# Altium schematic symbol library Schlib.SchLib: 36 symbols
Pins are listed as number, name and electrical type; pins without a type are passive.

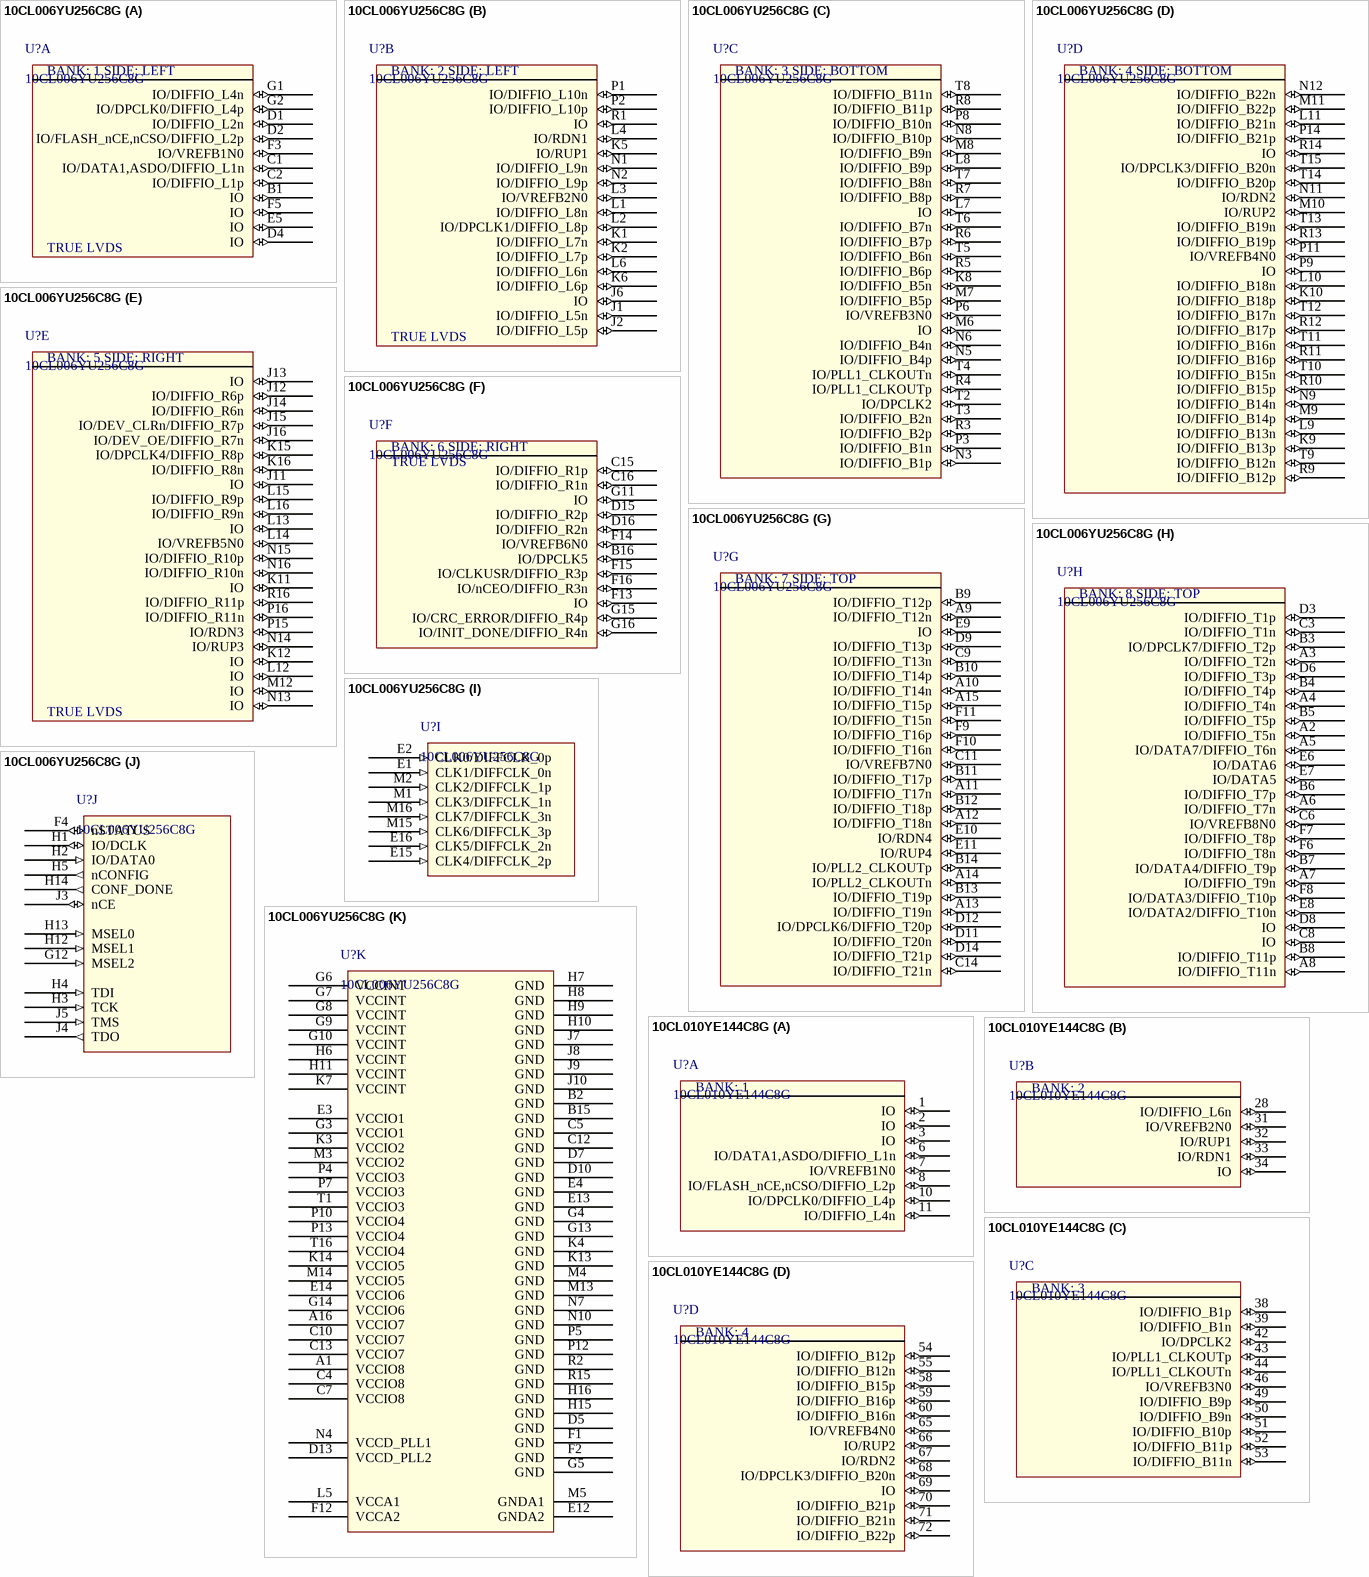
[diagram p0: symbols 10CL006YU256C8G to 10CL010YE144C8G]

## 10CL006YU256C8G
designator U?
Intel® Cyclone®10 10CL006 Device
footprint BGA256C80P16X16_1400X1400X135 (BGA, 256-Leads, Body 14,00x14,00mmx1,35mm, Pitch 0,80mm)
part A pins: B1 IO (io), C1 IO/DATA1,ASDO/DIFFIO_L1n (io), C2 IO/DIFFIO_L1p (io), D1 IO/DIFFIO_L2n (io), D2 IO/FLASH_nCE,nCSO/DIFFIO_L2p (io), D4 IO (io), E5 IO (io), F3 IO/VREFB1N0 (io), F5 IO (io), G1 IO/DIFFIO_L4n (io), G2 IO/DPCLK0/DIFFIO_L4p (io)
part B pins: J1 IO/DIFFIO_L5n (io), J2 IO/DIFFIO_L5p (io), J6 IO (io), K1 IO/DIFFIO_L7n (io), K2 IO/DIFFIO_L7p (io), K5 IO/RUP1 (io), K6 IO/DIFFIO_L6p (io), L1 IO/DIFFIO_L8n (io), L2 IO/DPCLK1/DIFFIO_L8p (io), L3 IO/VREFB2N0 (io), L4 IO/RDN1 (io), L6 IO/DIFFIO_L6n (io), N1 IO/DIFFIO_L9n (io), N2 IO/DIFFIO_L9p (io), P1 IO/DIFFIO_L10n (io), P2 IO/DIFFIO_L10p (io), R1 IO (io)
part C pins: K8 IO/DIFFIO_B5n (io), L7 IO (io), L8 IO/DIFFIO_B9p (io), M6 IO (io), M7 IO/DIFFIO_B5p (io), M8 IO/DIFFIO_B9n (io), N3 IO/DIFFIO_B1p (io), N5 IO/DIFFIO_B4p (io), N6 IO/DIFFIO_B4n (io), N8 IO/DIFFIO_B10p (io), P3 IO/DIFFIO_B1n (io), P6 IO/VREFB3N0 (io), P8 IO/DIFFIO_B10n (io), R3 IO/DIFFIO_B2p (io), R4 IO/PLL1_CLKOUTp (io), R5 IO/DIFFIO_B6p (io), R6 IO/DIFFIO_B7p (io), R7 IO/DIFFIO_B8p (io), R8 IO/DIFFIO_B11p (io), T2 IO/DPCLK2 (io), T3 IO/DIFFIO_B2n (io), T4 IO/PLL1_CLKOUTn (io), T5 IO/DIFFIO_B6n (io), T6 IO/DIFFIO_B7n (io), T7 IO/DIFFIO_B8n (io), T8 IO/DIFFIO_B11n (io)
part D pins: K9 IO/DIFFIO_B13p (io), K10 IO/DIFFIO_B18p (io), L9 IO/DIFFIO_B13n (io), L10 IO/DIFFIO_B18n (io), L11 IO/DIFFIO_B21n (io) "eeee", M9 IO/DIFFIO_B14p (io), M10 IO/RUP2 (io), M11 IO/DIFFIO_B22p (io), N9 IO/DIFFIO_B14n (io), N11 IO/RDN2 (io), N12 IO/DIFFIO_B22n (io), P9 IO (io), P11 IO/VREFB4N0 (io), P14 IO/DIFFIO_B21p (io) "wewe", R9 IO/DIFFIO_B12p (io), R10 IO/DIFFIO_B15p (io), R11 IO/DIFFIO_B16p (io), R12 IO/DIFFIO_B17p (io), R13 IO/DIFFIO_B19p (io), R14 IO (io), T9 IO/DIFFIO_B12n (io), T10 IO/DIFFIO_B15n (io), T11 IO/DIFFIO_B16n (io), T12 IO/DIFFIO_B17n (io), T13 IO/DIFFIO_B19n (io), T14 IO/DIFFIO_B20p (io), T15 IO/DPCLK3/DIFFIO_B20n (io)
part E pins: J11 IO (io), J12 IO/DIFFIO_R6p (io), J13 IO (io), J14 IO/DIFFIO_R6n (io), J15 IO/DEV_CLRn/DIFFIO_R7p (io), J16 IO/DEV_OE/DIFFIO_R7n (io), K11 IO (io), K12 IO (io), K15 IO/DPCLK4/DIFFIO_R8p (io), K16 IO/DIFFIO_R8n (io), L12 IO (io), L13 IO (io), L14 IO/VREFB5N0 (io), L15 IO/DIFFIO_R9p (io), L16 IO/DIFFIO_R9n (io), M12 IO (io), N13 IO (io), N14 IO/RUP3 (io), N15 IO/DIFFIO_R10p (io), N16 IO/DIFFIO_R10n (io), P15 IO/RDN3 (io), P16 IO/DIFFIO_R11n (io), R16 IO/DIFFIO_R11p (io)
part F pins: B16 IO/DPCLK5 (io), C15 IO/DIFFIO_R1p (io), C16 IO/DIFFIO_R1n (io), D15 IO/DIFFIO_R2p (io), D16 IO/DIFFIO_R2n (io), F13 IO (io), F14 IO/VREFB6N0 (io), F15 IO/CLKUSR/DIFFIO_R3p (io), F16 IO/nCEO/DIFFIO_R3n (io), G11 IO (io), G15 IO/CRC_ERROR/DIFFIO_R4p (io), G16 IO/INIT_DONE/DIFFIO_R4n (io)
part G pins: A9 IO/DIFFIO_T12n (io), A10 IO/DIFFIO_T14n (io), A11 IO/DIFFIO_T17n (io), A12 IO/DIFFIO_T18n (io), A13 IO/DIFFIO_T19n (io), A14 IO/PLL2_CLKOUTn (io), A15 IO/DIFFIO_T15p (io), B9 IO/DIFFIO_T12p (io), B10 IO/DIFFIO_T14p (io), B11 IO/DIFFIO_T17p (io), B12 IO/DIFFIO_T18p (io), B13 IO/DIFFIO_T19p (io), B14 IO/PLL2_CLKOUTp (io), C9 IO/DIFFIO_T13n (io), C11 IO/VREFB7N0 (io), C14 IO/DIFFIO_T21n (io), D9 IO/DIFFIO_T13p (io), D11 IO/DIFFIO_T20n (io), D12 IO/DPCLK6/DIFFIO_T20p (io), D14 IO/DIFFIO_T21p (io), E9 IO (io), E10 IO/RDN4 (io), E11 IO/RUP4 (io), F9 IO/DIFFIO_T16p (io), F10 IO/DIFFIO_T16n (io), F11 IO/DIFFIO_T15n (io)
part H pins: A2 IO/DIFFIO_T5n (io), A3 IO/DIFFIO_T2n (io), A4 IO/DIFFIO_T4n (io), A5 IO/DATA7/DIFFIO_T6n (io), A6 IO/DIFFIO_T7n (io), A7 IO/DIFFIO_T9n (io), A8 IO/DIFFIO_T11n (io), B3 IO/DPCLK7/DIFFIO_T2p (io), B4 IO/DIFFIO_T4p (io), B5 IO/DIFFIO_T5p (io), B6 IO/DIFFIO_T7p (io), B7 IO/DATA4/DIFFIO_T9p (io), B8 IO/DIFFIO_T11p (io), C3 IO/DIFFIO_T1n (io), C6 IO/VREFB8N0 (io), C8 IO (io), D3 IO/DIFFIO_T1p (io), D6 IO/DIFFIO_T3p (io), D8 IO (io), E6 IO/DATA6 (io), E7 IO/DATA5 (io), E8 IO/DATA2/DIFFIO_T10n (io), F6 IO/DIFFIO_T8n (io), F7 IO/DIFFIO_T8p (io), F8 IO/DATA3/DIFFIO_T10p (io)
part I pins: E1 CLK1/DIFFCLK_0n (in), E2 CLK0/DIFFCLK_0p (in), E15 CLK4/DIFFCLK_2p (in), E16 CLK5/DIFFCLK_2n (in), M1 CLK3/DIFFCLK_1n (in), M2 CLK2/DIFFCLK_1p (in), M15 CLK6/DIFFCLK_3p (in), M16 CLK7/DIFFCLK_3n (in)
part J pins: F4 nSTATUS (io), G12 MSEL2 (in), H1 IO/DCLK (io), H2 IO/DATA0 (in), H3 TCK (in), H4 TDI (in), H5 nCONFIG (out), H12 MSEL1 (in), H13 MSEL0 (in), H14 CONF_DONE (out), J3 nCE (io), J4 TDO (out), J5 TMS (in)
part K pins: A1 VCCIO8 (power), A16 VCCIO7 (power), B2 GND (power), B15 GND (power), C4 VCCIO8 (power), C5 GND (power), C7 VCCIO8 (power), C10 VCCIO7 (power), C12 GND (power), C13 VCCIO7 (power), D5 GND (power), D7 GND (power), D10 GND (power), D13 VCCD_PLL2 (power), E3 VCCIO1 (power), E4 GND (power), E12 GNDA2 (power), E13 GND (power), E14 VCCIO6 (power), F1 GND (power), F2 GND (power), F12 VCCA2 (power), G3 VCCIO1 (power), G4 GND (power), G5 GND (power), G6 VCCINT (power), G7 VCCINT (power), G8 VCCINT (power), G9 VCCINT (power), G10 VCCINT (power), G13 GND (power), G14 VCCIO6 (power), H6 VCCINT (power), H7 GND (power), H8 GND (power), H9 GND (power), H10 GND (power), H11 VCCINT (power), H15 GND (power), H16 GND (power), J7 GND (power), J8 GND (power), J9 GND (power), J10 GND (power), K3 VCCIO2 (power), K4 GND (power), K7 VCCINT (power), K13 GND (power), K14 VCCIO5 (power), L5 VCCA1 (power), M3 VCCIO2 (power), M4 GND (power), M5 GNDA1 (power), M13 GND (power), M14 VCCIO5 (power), N4 VCCD_PLL1 (power), N7 GND (power), N10 GND (power), P4 VCCIO3 (power), P5 GND (power), P7 VCCIO3 (power), P10 VCCIO4 (power), P12 GND (power), P13 VCCIO4 (power), R2 GND (power), R15 GND (power), T1 VCCIO3 (power), T16 VCCIO4 (power)
part A text: BANK: 1 SIDE: LEFT; TRUE LVDS
part B text: BANK: 2 SIDE: LEFT; TRUE LVDS
part C text: BANK: 3 SIDE: BOTTOM
part D text: BANK: 4 SIDE: BOTTOM
part E text: BANK: 5 SIDE: RIGHT; TRUE LVDS
part F text: BANK: 6 SIDE: RIGHT; TRUE LVDS
part G text: BANK: 7 SIDE: TOP
part H text: BANK: 8 SIDE: TOP

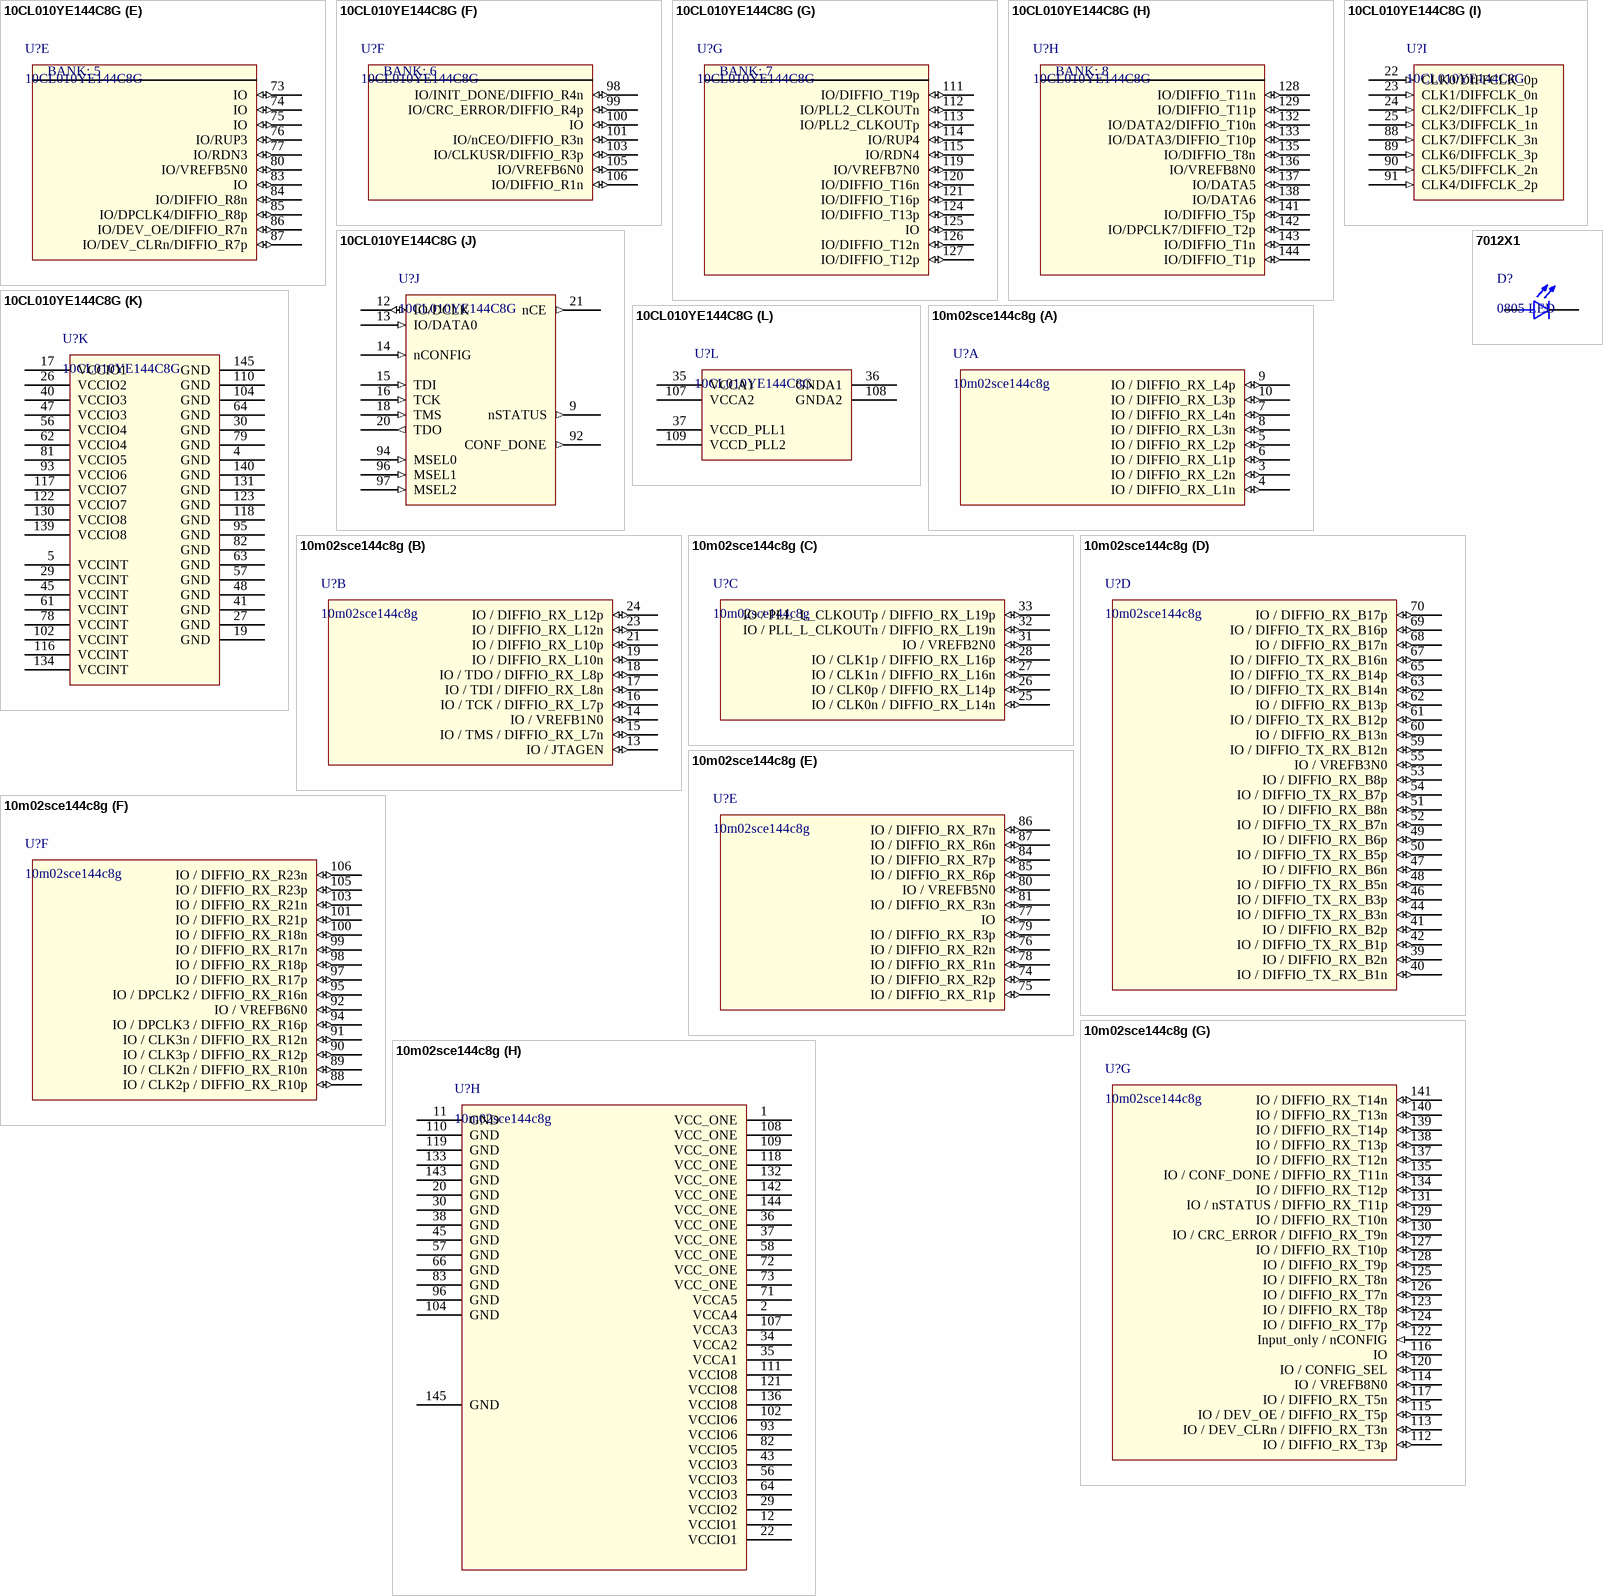
[diagram p1: symbols 10CL010YE144C8G to 7012X1]

## 10CL010YE144C8G
designator U?
Intel® Cyclone®10 10CL010 Device
footprint Altera TQFP 50P 22X22 145N (TSQFP, 144-Leads, Body 20,00x20,00mm, Pitch 0,50mm, Thermal Pad 4,00x4,00mm, IPC Medium Density)
part A pins: 1 IO (io), 2 IO (io), 3 IO (io), 6 IO/DATA1,ASDO/DIFFIO_L1n (io), 7 IO/VREFB1N0 (io), 8 IO/FLASH_nCE,nCSO/DIFFIO_L2p (io), 10 IO/DPCLK0/DIFFIO_L4p (io), 11 IO/DIFFIO_L4n (io)
part B pins: 28 IO/DIFFIO_L6n (io), 31 IO/VREFB2N0 (io), 32 IO/RUP1 (io), 33 IO/RDN1 (io), 34 IO (io)
part C pins: 38 IO/DIFFIO_B1p (io), 39 IO/DIFFIO_B1n (io), 42 IO/DPCLK2 (io), 43 IO/PLL1_CLKOUTp (io), 44 IO/PLL1_CLKOUTn (io), 46 IO/VREFB3N0 (io), 49 IO/DIFFIO_B9p (io), 50 IO/DIFFIO_B9n (io), 51 IO/DIFFIO_B10p (io), 52 IO/DIFFIO_B11p (io), 53 IO/DIFFIO_B11n (io)
part D pins: 54 IO/DIFFIO_B12p (io), 55 IO/DIFFIO_B12n (io), 58 IO/DIFFIO_B15p (io), 59 IO/DIFFIO_B16p (io), 60 IO/DIFFIO_B16n (io), 65 IO/VREFB4N0 (io), 66 IO/RUP2 (io), 67 IO/RDN2 (io), 68 IO/DPCLK3/DIFFIO_B20n (io), 69 IO (io), 70 IO/DIFFIO_B21p (io), 71 IO/DIFFIO_B21n (io), 72 IO/DIFFIO_B22p (io)
part E pins: 73 IO (io), 74 IO (io), 75 IO (io), 76 IO/RUP3 (io), 77 IO/RDN3 (io), 80 IO/VREFB5N0 (io), 83 IO (io), 84 IO/DIFFIO_R8n (io), 85 IO/DPCLK4/DIFFIO_R8p (io), 86 IO/DEV_OE/DIFFIO_R7n (io), 87 IO/DEV_CLRn/DIFFIO_R7p (io)
part F pins: 98 IO/INIT_DONE/DIFFIO_R4n (io), 99 IO/CRC_ERROR/DIFFIO_R4p (io), 100 IO (io), 101 IO/nCEO/DIFFIO_R3n (io), 103 IO/CLKUSR/DIFFIO_R3p (io), 105 IO/VREFB6N0 (io), 106 IO/DIFFIO_R1n (io)
part G pins: 111 IO/DIFFIO_T19p (io), 112 IO/PLL2_CLKOUTn (io), 113 IO/PLL2_CLKOUTp (io), 114 IO/RUP4 (io), 115 IO/RDN4 (io), 119 IO/VREFB7N0 (io), 120 IO/DIFFIO_T16n (io), 121 IO/DIFFIO_T16p (io), 124 IO/DIFFIO_T13p (io), 125 IO (io), 126 IO/DIFFIO_T12n (io), 127 IO/DIFFIO_T12p (io)
part H pins: 128 IO/DIFFIO_T11n (io), 129 IO/DIFFIO_T11p (io), 132 IO/DATA2/DIFFIO_T10n (io), 133 IO/DATA3/DIFFIO_T10p (io), 135 IO/DIFFIO_T8n (io), 136 IO/VREFB8N0 (io), 137 IO/DATA5 (io), 138 IO/DATA6 (io), 141 IO/DIFFIO_T5p (io), 142 IO/DPCLK7/DIFFIO_T2p (io), 143 IO/DIFFIO_T1n (io), 144 IO/DIFFIO_T1p (io)
part I pins: 22 CLK0/DIFFCLK_0p (in), 23 CLK1/DIFFCLK_0n (in), 24 CLK2/DIFFCLK_1p (in), 25 CLK3/DIFFCLK_1n (in), 88 CLK7/DIFFCLK_3n (in), 89 CLK6/DIFFCLK_3p (in), 90 CLK5/DIFFCLK_2n (in), 91 CLK4/DIFFCLK_2p (in)
part J pins: 9 nSTATUS (out), 12 IO/DCLK (io), 13 IO/DATA0 (in), 14 nCONFIG (in), 15 TDI (in), 16 TCK (in), 18 TMS (in), 20 TDO (out), 21 nCE (out), 92 CONF_DONE (out), 94 MSEL0 (in), 96 MSEL1 (in), 97 MSEL2 (in)
part K pins: 4 GND (power), 5 VCCINT (power), 17 VCCIO1 (power), 19 GND (power), 26 VCCIO2 (power), 27 GND (power), 29 VCCINT (power), 30 GND (power), 40 VCCIO3 (power), 41 GND (power), 45 VCCINT (power), 47 VCCIO3 (power), 48 GND (power), 56 VCCIO4 (power), 57 GND (power), 61 VCCINT (power), 62 VCCIO4 (power), 63 GND (power), 64 GND (power), 78 VCCINT (power), 79 GND (power), 81 VCCIO5 (power), 82 GND (power), 93 VCCIO6 (power), 95 GND (power), 102 VCCINT (power), 104 GND (power), 110 GND (power), 116 VCCINT (power), 117 VCCIO7 (power), 118 GND (power), 122 VCCIO7 (power), 123 GND (power), 130 VCCIO8 (power), 131 GND (power), 134 VCCINT (power), 139 VCCIO8 (power), 140 GND (power), 145 GND (power)
part L pins: 35 VCCA1 (power), 36 GNDA1 (power), 37 VCCD_PLL1 (power), 107 VCCA2 (power), 108 GNDA2 (power), 109 VCCD_PLL2 (power)
part A text: BANK: 1
part B text: BANK: 2
part C text: BANK: 3
part D text: BANK: 4
part E text: BANK: 5
part F text: BANK: 6
part G text: BANK: 7
part H text: BANK: 8

## 10m02sce144c8g
designator U?
FPGA MAX10
footprint Altera TQFP 50P 22X22 145N (TSQFP, 144-Leads, Body 20,00x20,00mm, Pitch 0,50mm, Thermal Pad 4,00x4,00mm, IPC Medium Density)
part A pins: 3 IO / DIFFIO_RX_L2n (io), 4 IO / DIFFIO_RX_L1n (io), 5 IO / DIFFIO_RX_L2p (io), 6 IO / DIFFIO_RX_L1p (io), 7 IO / DIFFIO_RX_L4n (io), 8 IO / DIFFIO_RX_L3n (io), 9 IO / DIFFIO_RX_L4p (io), 10 IO / DIFFIO_RX_L3p (io)
part B pins: 13 IO / JTAGEN (io), 14 IO / VREFB1N0 (io), 15 IO / TMS / DIFFIO_RX_L7n (io), 16 IO / TCK / DIFFIO_RX_L7p (io), 17 IO / TDI / DIFFIO_RX_L8n (io), 18 IO / TDO / DIFFIO_RX_L8p (io), 19 IO / DIFFIO_RX_L10n (io), 21 IO / DIFFIO_RX_L10p (io), 23 IO / DIFFIO_RX_L12n (io), 24 IO / DIFFIO_RX_L12p (io)
part C pins: 25 IO / CLK0n / DIFFIO_RX_L14n (io), 26 IO / CLK0p / DIFFIO_RX_L14p (io), 27 IO / CLK1n / DIFFIO_RX_L16n (io), 28 IO / CLK1p / DIFFIO_RX_L16p (io), 31 IO / VREFB2N0 (io), 32 IO / PLL_L_CLKOUTn / DIFFIO_RX_L19n (io), 33 IO / PLL_L_CLKOUTp / DIFFIO_RX_L19p (io)
part D pins: 39 IO / DIFFIO_RX_B2n (io), 40 IO / DIFFIO_TX_RX_B1n (io), 41 IO / DIFFIO_RX_B2p (io), 42 IO / DIFFIO_TX_RX_B1p (io), 44 IO / DIFFIO_TX_RX_B3n (io), 46 IO / DIFFIO_TX_RX_B3p (io), 47 IO / DIFFIO_RX_B6n (io), 48 IO / DIFFIO_TX_RX_B5n (io), 49 IO / DIFFIO_RX_B6p (io), 50 IO / DIFFIO_TX_RX_B5p (io), 51 IO / DIFFIO_RX_B8n (io), 52 IO / DIFFIO_TX_RX_B7n (io), 53 IO / DIFFIO_RX_B8p (io), 54 IO / DIFFIO_TX_RX_B7p (io), 55 IO / VREFB3N0 (io), 59 IO / DIFFIO_TX_RX_B12n (io), 60 IO / DIFFIO_RX_B13n (io), 61 IO / DIFFIO_TX_RX_B12p (io), 62 IO / DIFFIO_RX_B13p (io), 63 IO / DIFFIO_TX_RX_B14n (io), 65 IO / DIFFIO_TX_RX_B14p (io), 67 IO / DIFFIO_TX_RX_B16n (io), 68 IO / DIFFIO_RX_B17n (io), 69 IO / DIFFIO_TX_RX_B16p (io), 70 IO / DIFFIO_RX_B17p (io)
part E pins: 74 IO / DIFFIO_RX_R2p (io), 75 IO / DIFFIO_RX_R1p (io), 76 IO / DIFFIO_RX_R2n (io), 77 IO (io), 78 IO / DIFFIO_RX_R1n (io), 79 IO / DIFFIO_RX_R3p (io), 80 IO / VREFB5N0 (io), 81 IO / DIFFIO_RX_R3n (io), 84 IO / DIFFIO_RX_R7p (io), 85 IO / DIFFIO_RX_R6p (io), 86 IO / DIFFIO_RX_R7n (io), 87 IO / DIFFIO_RX_R6n (io)
part F pins: 88 IO / CLK2p / DIFFIO_RX_R10p (io), 89 IO / CLK2n / DIFFIO_RX_R10n (io), 90 IO / CLK3p / DIFFIO_RX_R12p (io), 91 IO / CLK3n / DIFFIO_RX_R12n (io), 92 IO / VREFB6N0 (io), 94 IO / DPCLK3 / DIFFIO_RX_R16p (io), 95 IO / DPCLK2 / DIFFIO_RX_R16n (io), 97 IO / DIFFIO_RX_R17p (io), 98 IO / DIFFIO_RX_R18p (io), 99 IO / DIFFIO_RX_R17n (io), 100 IO / DIFFIO_RX_R18n (io), 101 IO / DIFFIO_RX_R21p (io), 103 IO / DIFFIO_RX_R21n (io), 105 IO / DIFFIO_RX_R23p (io), 106 IO / DIFFIO_RX_R23n (io)
part G pins: 112 IO / DIFFIO_RX_T3p (io), 113 IO / DEV_CLRn / DIFFIO_RX_T3n (io), 114 IO / VREFB8N0 (io), 115 IO / DEV_OE / DIFFIO_RX_T5p (io), 116 IO (io), 117 IO / DIFFIO_RX_T5n (io), 120 IO / CONFIG_SEL (io), 122 Input_only / nCONFIG (in), 123 IO / DIFFIO_RX_T8p (io), 124 IO / DIFFIO_RX_T7p (io), 125 IO / DIFFIO_RX_T8n (io), 126 IO / DIFFIO_RX_T7n (io), 127 IO / DIFFIO_RX_T10p (io), 128 IO / DIFFIO_RX_T9p (io), 129 IO / DIFFIO_RX_T10n (io), 130 IO / CRC_ERROR / DIFFIO_RX_T9n (io), 131 IO / nSTATUS / DIFFIO_RX_T11p (io), 134 IO / DIFFIO_RX_T12p (io), 135 IO / CONF_DONE / DIFFIO_RX_T11n (io), 137 IO / DIFFIO_RX_T12n (io), 138 IO / DIFFIO_RX_T13p (io), 139 IO / DIFFIO_RX_T14p (io), 140 IO / DIFFIO_RX_T13n (io), 141 IO / DIFFIO_RX_T14n (io)
part H pins: 1 VCC_ONE (power), 2 VCCA4 (power), 11 GND (power), 12 VCCIO1 (power), 20 GND (power), 22 VCCIO1 (power), 29 VCCIO2 (power), 30 GND (power), 34 VCCA2 (power), 35 VCCA1 (power), 36 VCC_ONE (power), 37 VCC_ONE (power), 38 GND (power), 43 VCCIO3 (power), 45 GND (power), 56 VCCIO3 (power), 57 GND (power), 58 VCC_ONE (power), 64 VCCIO3 (power), 66 GND (power), 71 VCCA5 (power), 72 VCC_ONE (power), 73 VCC_ONE (power), 82 VCCIO5 (power), 83 GND (power), 93 VCCIO6 (power), 96 GND (power), 102 VCCIO6 (power), 104 GND (power), 107 VCCA3 (power), 108 VCC_ONE (power), 109 VCC_ONE (power), 110 GND (power), 111 VCCIO8 (power), 118 VCC_ONE (power), 119 GND (power), 121 VCCIO8 (power), 132 VCC_ONE (power), 133 GND (power), 136 VCCIO8 (power), 142 VCC_ONE (power), 143 GND (power), 144 VCC_ONE (power), 145 GND (power)

## 7012X1
designator D?, comment 0805 LED
Red LED Indication - Discrete 1.7V 0805 (2012 Metric); MP: 7012X1; Package: None; Price: None; Value: *; Availability: Unavailable
footprint LED_7012X1
pins: A, C

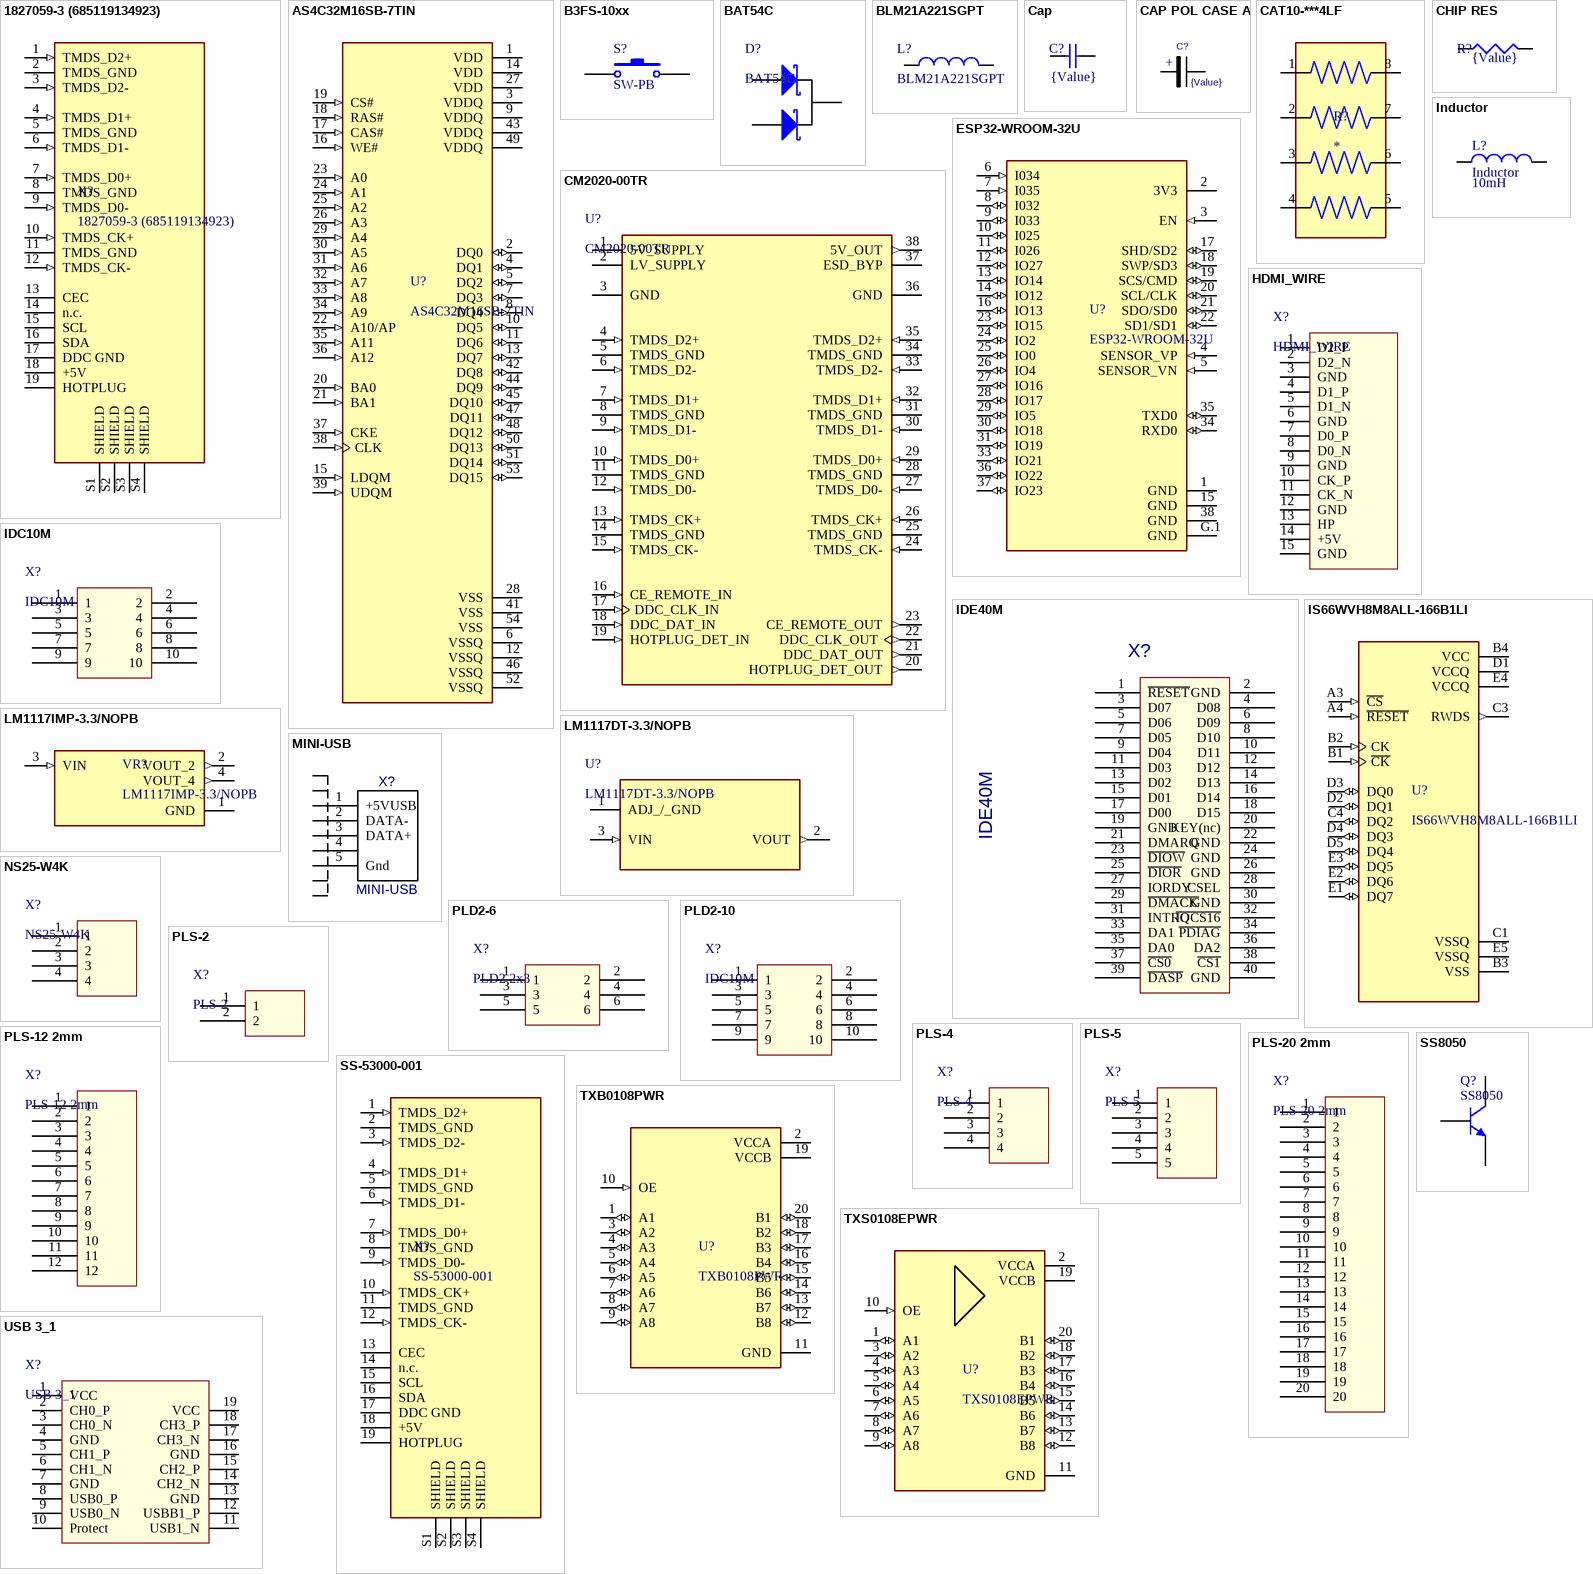
[diagram p2: symbols 1827059-3 (685119134923) to USB 3_1]

## 1827059-3 (685119134923)
designator X?
HDMI Connector | Right Angle | Without Flange | -20C to 85C / 1827059-3 / KLS1-285-1-N-1-R / 1747981-1 / 685119134923; MP: SS-53000-001; MF: Stewart Connector; Price: None; SnapEDA_Link: https://www.snapeda.com/parts/SS-53000-001/Stewart%20Connector/view-part/4628816/?ref=snap; Availability: Unavailable; Value: *; Package: None
footprint 1827059-3 (685119134923)
pins: 1 TMDS_D2+ (in), 2 TMDS_GND (power), 3 TMDS_D2- (in), 4 TMDS_D1+ (in), 5 TMDS_GND (power), 6 TMDS_D1- (in), 7 TMDS_D0+ (in), 8 TMDS_GND (power), 9 TMDS_D0- (in), 10 TMDS_CK+ (in), 11 TMDS_GND (power), 12 TMDS_CK- (in), 13 CEC, 14 n.c., 15 SCL, 16 SDA, 17 DDC GND, 18 +5V, 19 HOTPLUG, S1 SHIELD, S2 SHIELD, S3 SHIELD, S4 SHIELD

## AS4C32M16SB-7TIN
designator U?
SDRAM Memory IC 512Mb (32M x 16) Parallel 166MHz 5ns 54-TSOP II; Package: None; Price: None; Value: *; MP: AS4C32M16SB-7TIN; Availability: Unavailable
footprint SOP80P1176X120-54N
pins: 1 VDD (power), 2 DQ0 (io), 3 VDDQ (power), 4 DQ1 (io), 5 DQ2 (io), 6 VSSQ (power), 7 DQ3 (io), 8 DQ4 (io), 9 VDDQ (power), 10 DQ5 (io), 11 DQ6 (io), 12 VSSQ (power), 13 DQ7 (io), 14 VDD (power), 15 LDQM (in), 16 WE# (in), 17 CAS# (in), 18 RAS# (in), 19 CS# (in), 20 BA0 (in), 21 BA1 (in), 22 A10/AP (in), 23 A0 (in), 24 A1 (in), 25 A2 (in), 26 A3 (in), 27 VDD (power), 28 VSS (power), 29 A4 (in), 30 A5 (in), 31 A6 (in), 32 A7 (in), 33 A8 (in), 34 A9 (in), 35 A11 (in), 36 A12 (in), 37 CKE (in), 38 CLK (in), 39 UDQM (in), 41 VSS (power), 42 DQ8 (io), 43 VDDQ (power), 44 DQ9 (io), 45 DQ10 (io), 46 VSSQ (power), 47 DQ11 (io), 48 DQ12 (io), 49 VDDQ (power), 50 DQ13 (io), 51 DQ14 (io), 52 VSSQ (power), 53 DQ15 (io), 54 VSS (power)

## B3FS-10xx
designator S?, comment SW-PB
Switch; Published: 24-Mar-1999; LatestRevisionDate: 17-Jul-2002; LatestRevisionNote: Re-released for DXP Platform.; PackageReference: SPST-2; Publisher: Altium Limited; PackageDescription: Switch; 2 Leads
footprint B3FS-1000P (Tactile Switch (SMT))
pins: 1, 2

## BAT54C
designator D?
footprint SOT-23 (SOT-23; 3 Leads; Body 3.1 x 2.5 mm, inc. leads (LxW max))
pins: 1 A, 2 A, 3 C

## BLM21A221SGPT
designator L?
CHIP FERRITE BEADS 220R AT 100Mhz; Value: 220R at 100Mhz
footprint 0805 CHIP RES
pins: 1, 2

## Cap
designator C?, comment {Value}
Capacitor; Value: {Value}
footprint 0603 Chip Semi CAP
footprint 0402 Chip CAP
footprint 0805 chip cap
pins: 1, 2

## CAP POL CASE A
designator C?, comment {Value}
Value: {Value}
footprint CAP CASE-A (Capacitor, SM Tantalum; Body 3.2 x 1.6 mm (LxW typ))
pins: 1, 2
text: +

## CAT10-***4LF
designator R?
*** Ohm Â±5% 62.5mW Power Per Element Isolated Resistor Network/Array Â±250ppm/Â°C 0804, Concave, Long Side Terminals; MP: CAT10-101J4LF; Package: None; Price: None; Value: *; Availability: Unavailable
footprint RESCAV50P200X100X55-8N
pins: 1, 2, 3, 4, 5, 6, 7, 8

## CHIP RES
designator R?, comment {Value}
Resistor; Value: {Value}
footprint 0805 CHIP RES
pins: 1, 2

## CM2020-00TR
designator U?
HDMI Port Protection 38-TSSOP; MF: ON Semiconductor; SnapEDA_Link: https://www.snapeda.com/parts/CM2020-00TR/ON%20Semiconductor/view-part/237892/?ref=snap; Value: *; Availability: Unavailable; Price: None; MP: CM2020-00TR; Package: TSSOP-38 ON Semiconductor
footprint TSSOP50P640X120-38N
pins: 1 5V_SUPPLY (power), 2 LV_SUPPLY (power), 3 GND (power), 4 TMDS_D2+ (in), 5 TMDS_GND (power), 6 TMDS_D2- (in), 7 TMDS_D1+ (in), 8 TMDS_GND (power), 9 TMDS_D1- (in), 10 TMDS_D0+ (in), 11 TMDS_GND (power), 12 TMDS_D0- (in), 13 TMDS_CK+ (in), 14 TMDS_GND (power), 15 TMDS_CK- (in), 16 CE_REMOTE_IN (in), 17 DDC_CLK_IN (in), 18 DDC_DAT_IN (in), 19 HOTPLUG_DET_IN (in), 20 HOTPLUG_DET_OUT (out), 21 DDC_DAT_OUT (out), 22 DDC_CLK_OUT (out), 23 CE_REMOTE_OUT (out), 24 TMDS_CK- (in), 25 TMDS_GND (power), 26 TMDS_CK+ (in), 27 TMDS_D0- (in), 28 TMDS_GND (power), 29 TMDS_D0+ (in), 30 TMDS_D1- (in), 31 TMDS_GND (power), 32 TMDS_D1+ (in), 33 TMDS_D2- (in), 34 TMDS_GND (power), 35 TMDS_D2+ (in), 36 GND (power), 37 ESD_BYP, 38 5V_OUT (out)

## ESP32-WROOM-32U
designator U?
Bluetooth, WiFi 802.11b/g/n, Bluetooth v4.2 +EDR, Class 1, 2 and 3 Transceiver Module 2.4GHz ~ 2.5GHz Antenna Not Included, U.FL Surface Mount; MF: Espressif Systems; Value: *; SnapEDA_Link: https://www.snapeda.com/parts/ESP32-WROOM-32U/Espressif%20Systems/view-part/2472476/?ref=snap; Availability: Unavailable; Price: None; DigiKey-Purchase-URL: https://snapeda.com/shop?store=DigiKey&id=2472476; Package: Module Espressif Systems; MP: ESP32-WROOM-32U
footprint XCVR_ESP32-WROOM-32U
pins: 1 GND (power), 2 3V3 (power), 3 EN (in), 4 SENSOR_VP (in), 5 SENSOR_VN (in), 6 I034 (in), 7 I035 (in), 8 I032 (io), 9 I033 (io), 10 I025 (io), 11 I026 (io), 12 IO27 (io), 13 IO14 (io), 14 IO12 (io), 15 GND (power), 16 IO13 (io), 17 SHD/SD2 (io), 18 SWP/SD3 (io), 19 SCS/CMD (io), 20 SCL/CLK (io), 21 SDO/SD0 (io), 22 SD1/SD1 (io), 23 IO15 (io), 24 IO2 (io), 25 IO0 (io), 26 IO4 (io), 27 IO16 (io), 28 IO17 (io), 29 IO5 (io), 30 IO18 (io), 31 IO19 (io), 33 IO21 (io), 34 RXD0 (io), 35 TXD0 (io), 36 IO22 (io), 37 IO23 (io), 38 GND (power), G.1 GND (power)

## HDMI_WIRE
designator X?  (net tie, no BOM)
footprint HDMI_WIRE
pins: 1 D2_P, 2 D2_N, 3 GND, 4 D1_P, 5 D1_N, 6 GND, 7 D0_P, 8 D0_N, 9 GND, 10 CK_P, 11 CK_N, 12 GND, 13 HP, 14 +5V, 15 GND

## IDC10M
designator X?
footprint IDC10M
pins: 1, 2, 3, 4, 5, 6, 7, 8, 9, 10

## IDE40M
designator X?
Value: *
footprint IDE40M
pins: 1 ~{RESET}, 2 GND, 3 D07, 4 D08, 5 D06, 6 D09, 7 D05, 8 D10, 9 D04, 10 D11, 11 D03, 12 D12, 13 D02, 14 D13, 15 D01, 16 D14, 17 D00, 18 D15, 19 GND, 20 KEY(nc), 21 DMARQ, 22 GND, 23 ~{DIOW}, 24 GND, 25 ~{DIOR}, 26 GND, 27 IORDY, 28 CSEL, 29 ~{DMACK}, 30 GND, 31 INTRQ, 32 ~{IOCS16}, 33 DA1, 34 ~{PDIAG}, 35 DA0, 36 DA2, 37 ~{CS0}, 38 ~{CS1}, 39 ~{DASP}, 40 GND

## Inductor
designator L?  value 10mH
Code_IEC: 1005; Published: 8-Jun-2000; LatestRevisionDate: 29-May-2009; LatestRevisionNote: IPC-7351 Footprint Added.; PackageReference: 0402-A; Publisher: Altium Limited; PackageDescription: Chip Inductor; Code_JEITA: 0402
footprint 0402-A (Chip Inductor, Body 1.0x0.5mm, IPC High Density)
footprint INDC1608L (Chip Inductor, Body 1.6x0.8mm, IPC High Density)
footprint 2029 (Chip Inductor, Body 2.0x1.2mm, IPC High Density)
footprint 0603 (Chip Inductor, Body 0.6x0.3mm, IPC High Density)
footprint INDC3216 (Chip Inductor, Body 3.2x1.6mm, IPC High Density)
footprint INDC4532 (Chip Inductor, Body 4.5x3.2mm, IPC High Density)
simulation model INDUCTOR (Inductor)
signal-integrity model Inductor
pins: 1, 2

## IS66WVH8M8ALL-166B1LI
designator U?
PSRAM (Pseudo SRAM) Memory IC 64Mb (8M x 8) Parallel 166MHz 36ns 24-TFBGA (6x8); MP: IS66WVH8M8ALL-166B1LI-TR; MF: ISSI, Integrated; Check_prices: https://www.snapeda.com/parts/IS66WVH8M8ALL-166B1LI-TR/ISSI,%20Integrated%20Silicon%20Solution%20Inc/view-part/965071/?ref=eda; Price: None; SnapEDA_Link: https://www.snapeda.com/parts/IS66WVH8M8ALL-166B1LI-TR/ISSI,%20Integrated%20Silicon%20Solution%20Inc/view-part/965071/?ref=snap; Package: TFBGA-24 ISSI; Availability: Bad; Value: *
footprint BGA25C100P5X5_800X600X120N
pins: A3 ~{CS} (in), A4 ~{RESET} (in), B1 ~{CK} (in), B2 CK (in), B3 VSS (power), B4 VCC (power), C1 VSSQ (power), C3 RWDS (out), C4 DQ2 (io), D1 VCCQ (power), D2 DQ1 (io), D3 DQ0 (io), D4 DQ3 (io), D5 DQ4 (io), E1 DQ7 (io), E2 DQ6 (io), E3 DQ5 (io), E4 VCCQ (power), E5 VSSQ (power)

## LM1117DT-3.3/NOPB
designator U?
Linear Voltage Regulator IC 1 Output 800mA TO-252-3; MP: LM1117DT33; MF: Texas Instruments; SnapEDA_Link: https://www.snapeda.com/parts/LM1117DT33/Texas%20Instruments/view-part/19360/?ref=snap; Value: *; Package: None; Price: None; Availability: Unavailable
footprint TO228P970X238-3N
pins: 1 ADJ_/_GND (power), 2 VOUT (out), 3 VIN (in)

## LM1117IMP-3.3/NOPB
designator VR?
800-mA 15-V linear voltage regulator 4-SOT-223 0 to 125; Price: None; Package: None; Availability: Unavailable; MP: LM1117IMP-3.3/NOPB; Value: *
footprint VREG_LM1117IMP-3.3/NOPB
pins: 1 GND (power), 2 VOUT_2 (out), 3 VIN (in), 4 VOUT_4 (out)

## MINI-USB
designator X?
Value: *
footprint MINI-USB
pins: 1 +5VUSB, 2 DATA-, 3 DATA+, 4, 5 Gnd, 6, 7, 8, 9

## NS25-W4K
designator X?
footprint NS25-W4K
pins: 1, 2, 3, 4

## PLD2-6
designator X?, comment PLD2 2x3
footprint PLD2-6
pins: 1, 2, 3, 4, 5, 6

## PLD2-10
designator X?, comment IDC10M
footprint PLD2-10
pins: 1, 2, 3, 4, 5, 6, 7, 8, 9, 10

## PLS-2
designator X?
footprint PLB1-2I
pins: 1, 2

## PLS-4
designator X?
footprint PLB1-4I
pins: 1, 2, 3, 4

## PLS-5
designator X?
footprint PLB1-5I
pins: 1, 2, 3, 4, 5

## PLS-12 2mm
designator X?
footprint PLS-12 2MM
pins: 1, 2, 3, 4, 5, 6, 7, 8, 9, 10, 11, 12

## PLS-20 2mm
designator X?
footprint PLD2-20 2MM
pins: 1, 2, 3, 4, 5, 6, 7, 8, 9, 10, 11, 12, 13, 14, 15, 16, 17, 18, 19, 20

## SS8050
designator Q?
SS8050 NPN Bipolar Transistor; Published: 8-Jun-2000; LatestRevisionDate: 17-Jul-2002; LatestRevisionNote: Re-released for DXP Platform.; PackageReference: TO-226-AA; Publisher: Altium Limited; PackageDescription: TO, Flat Index; 3 In-Line, Axial Leads; Body Dia. 4.8mm; Leads 0.55 x 0.51 mm (max); Code_JEDEC: TO-226-AA
footprint SOT-23 (SOT-23; 3 Leads; Body 3.1 x 2.5 mm, inc. leads (LxW max)); pin to pad 1>3 2>1 3>2
pins: 1 C, 2 B, 3 E

## SS-53000-001
designator X?
HDMI Connector | Right Angle | Without Flange | -20C to 85C; MF: Stewart Connector; Price: None; MP: SS-53000-001; SnapEDA_Link: https://www.snapeda.com/parts/SS-53000-001/Stewart%20Connector/view-part/4628816/?ref=snap; Availability: Unavailable; Value: *; Package: None
footprint STEWART_SS-53000-001
pins: 1 TMDS_D2+ (in), 2 TMDS_GND (power), 3 TMDS_D2- (in), 4 TMDS_D1+ (in), 5 TMDS_GND (power), 6 TMDS_D1- (in), 7 TMDS_D0+ (in), 8 TMDS_GND (power), 9 TMDS_D0- (in), 10 TMDS_CK+ (in), 11 TMDS_GND (power), 12 TMDS_CK- (in), 13 CEC, 14 n.c., 15 SCL, 16 SDA, 17 DDC GND, 18 +5V, 19 HOTPLUG, S1 SHIELD, S2 SHIELD, S3 SHIELD, S4 SHIELD

## TXB0108PWR
designator U?
8-Bit Bidirectional Voltage-Level Shifter with Auto Direction Sensing and +/-15-kV ESD Protect 20-TSSOP -40 to 85; MF: Texas Instruments; Package: TSSOP-20 Texas Instruments; Value: *; Check_prices: https://www.snapeda.com/parts/TXB0108PWR/Texas%20Instruments/view-part/45111/?ref=eda; Purchase-URL: https://pricing.snapeda.com/search/part/TXB0108PWR/?ref=eda; Availability: Warning; SnapEDA_Link: https://www.snapeda.com/parts/TXB0108PWR/Texas%20Instruments/view-part/45111/?ref=snap; Price: None; MP: TXB0108PWR
footprint SOP65P640X120-20N
pins: 1 A1 (io), 2 VCCA (power), 3 A2 (io), 4 A3 (io), 5 A4 (io), 6 A5 (io), 7 A6 (io), 8 A7 (io), 9 A8 (io), 10 OE (in), 11 GND (power), 12 B8 (io), 13 B7 (io), 14 B6 (io), 15 B5 (io), 16 B4 (io), 17 B3 (io), 18 B2 (io), 19 VCCB (power), 20 B1 (io)

## TXS0108EPWR
designator U?
8-Bit Bidirectional Voltage-Level Shifter with Auto Direction Sensing and +/-15-kV ESD Protect 20-TSSOP -40 to 85; MF: Texas Instruments; MP: TXB0108PWR; Package: TSSOP-20 Texas Instruments; Value: *; Check_prices: https://www.snapeda.com/parts/TXB0108PWR/Texas%20Instruments/view-part/45111/?ref=eda; Purchase-URL: https://pricing.snapeda.com/search/part/TXB0108PWR/?ref=eda; Availability: Warning; SnapEDA_Link: https://www.snapeda.com/parts/TXB0108PWR/Texas%20Instruments/view-part/45111/?ref=snap; Price: None
footprint SOP65P640X120-20N
pins: 1 A1 (io), 2 VCCA (power), 3 A2 (io), 4 A3 (io), 5 A4 (io), 6 A5 (io), 7 A6 (io), 8 A7 (io), 9 A8 (io), 10 OE (in), 11 GND (power), 12 B8 (io), 13 B7 (io), 14 B6 (io), 15 B5 (io), 16 B4 (io), 17 B3 (io), 18 B2 (io), 19 VCCB (power), 20 B1 (io)

## USB 3_1
designator X?
footprint PLD2-20 2MM
pins: 1 VCC, 2 CH0_P, 3 CH0_N, 4 GND, 5 CH1_P, 6 CH1_N, 7 GND, 8 USB0_P, 9 USB0_N, 10 Protect, 11 USB1_N, 12 USBB1_P, 13 GND, 14 CH2_N, 15 CH2_P, 16 GND, 17 CH3_N, 18 CH3_P, 19 VCC